# Altium footprint library 21700_BAT.PcbLib: 1 footprints
Each footprint in its own frame and in the unit in brackets; x right, y up, seen from the top. Pads: shape width x height; smd on the part's side, far side on the other; paste and mask are expansions set on the pad; w line width, h text height; cw(c..) or ccw(c..) is an arc to the next point about the centre after c.
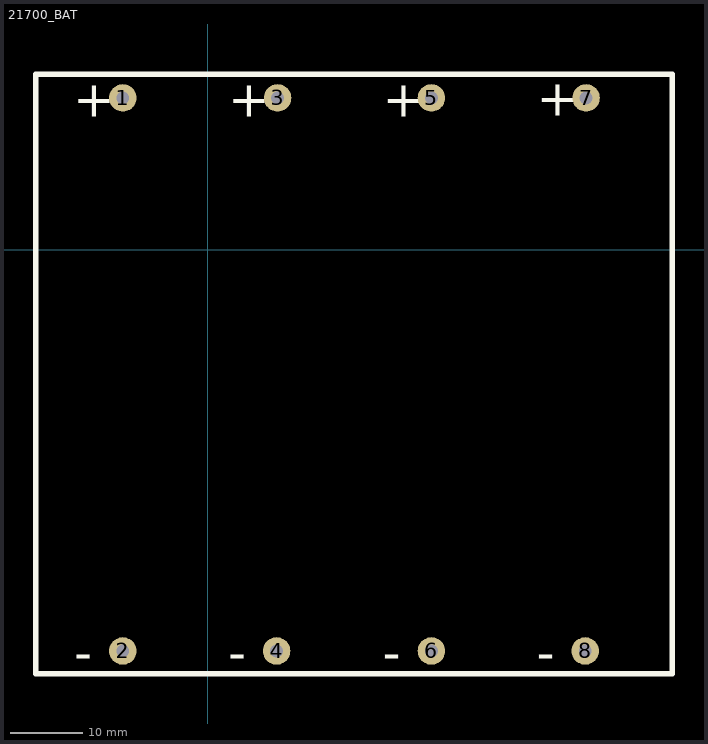
[diagram p0: the footprint, top view; thin cyan lines are the x and y axes]

## 21700_BAT [mil]
pads (8):
  round 150 hole 70: 1(-465,830) 2(-465,-2190) 3(380,830) 4(375,-2190) 5(1220,830) 6(1220,-2190) 7(2065,830) 8(2060,-2190)
Top Overlay:
  lines w30: -940,-2315 2535,-2315 2535,960 -940,960 -940,-2315
  text "-" at 1795,-2294.97 h200
  text "-" at 955,-2294.97 h200
  text "-" at 110,-2294.97 h200
  text "-" at -730,-2294.97 h200
  text "+" at 1795,731.68 h200
  text "+" at 955,726.68 h200
  text "+" at 110,726.68 h200
  text "+" at -735,726.68 h200
Bottom Overlay:
  text "-" at -730,-2294.97 h200
  text "-" at 110,-2294.97 h200
  text "-" at 1795,-2294.97 h200
  text "-" at 955,-2294.97 h200
  text "+" at 1795,731.68 h200
  text "+" at 955,726.68 h200
  text "+" at -735,726.68 h200
  text "+" at 110,726.68 h200
3D body "Hold_21700-4p.stp": height 858.27, standoff -157.48, extent -932.28,-2315 2532.28,952.72